# Altium footprint library 上板20130801.PcbLib: 22 footprints (part 1 of 2)
Each footprint in its own frame and in the unit in brackets; x right, y up, seen from the top. Pads: shape width x height; smd on the part's side, far side on the other; paste and mask are expansions set on the pad; w line width, h text height; cw(c..) or ccw(c..) is an arc to the next point about the centre after c.
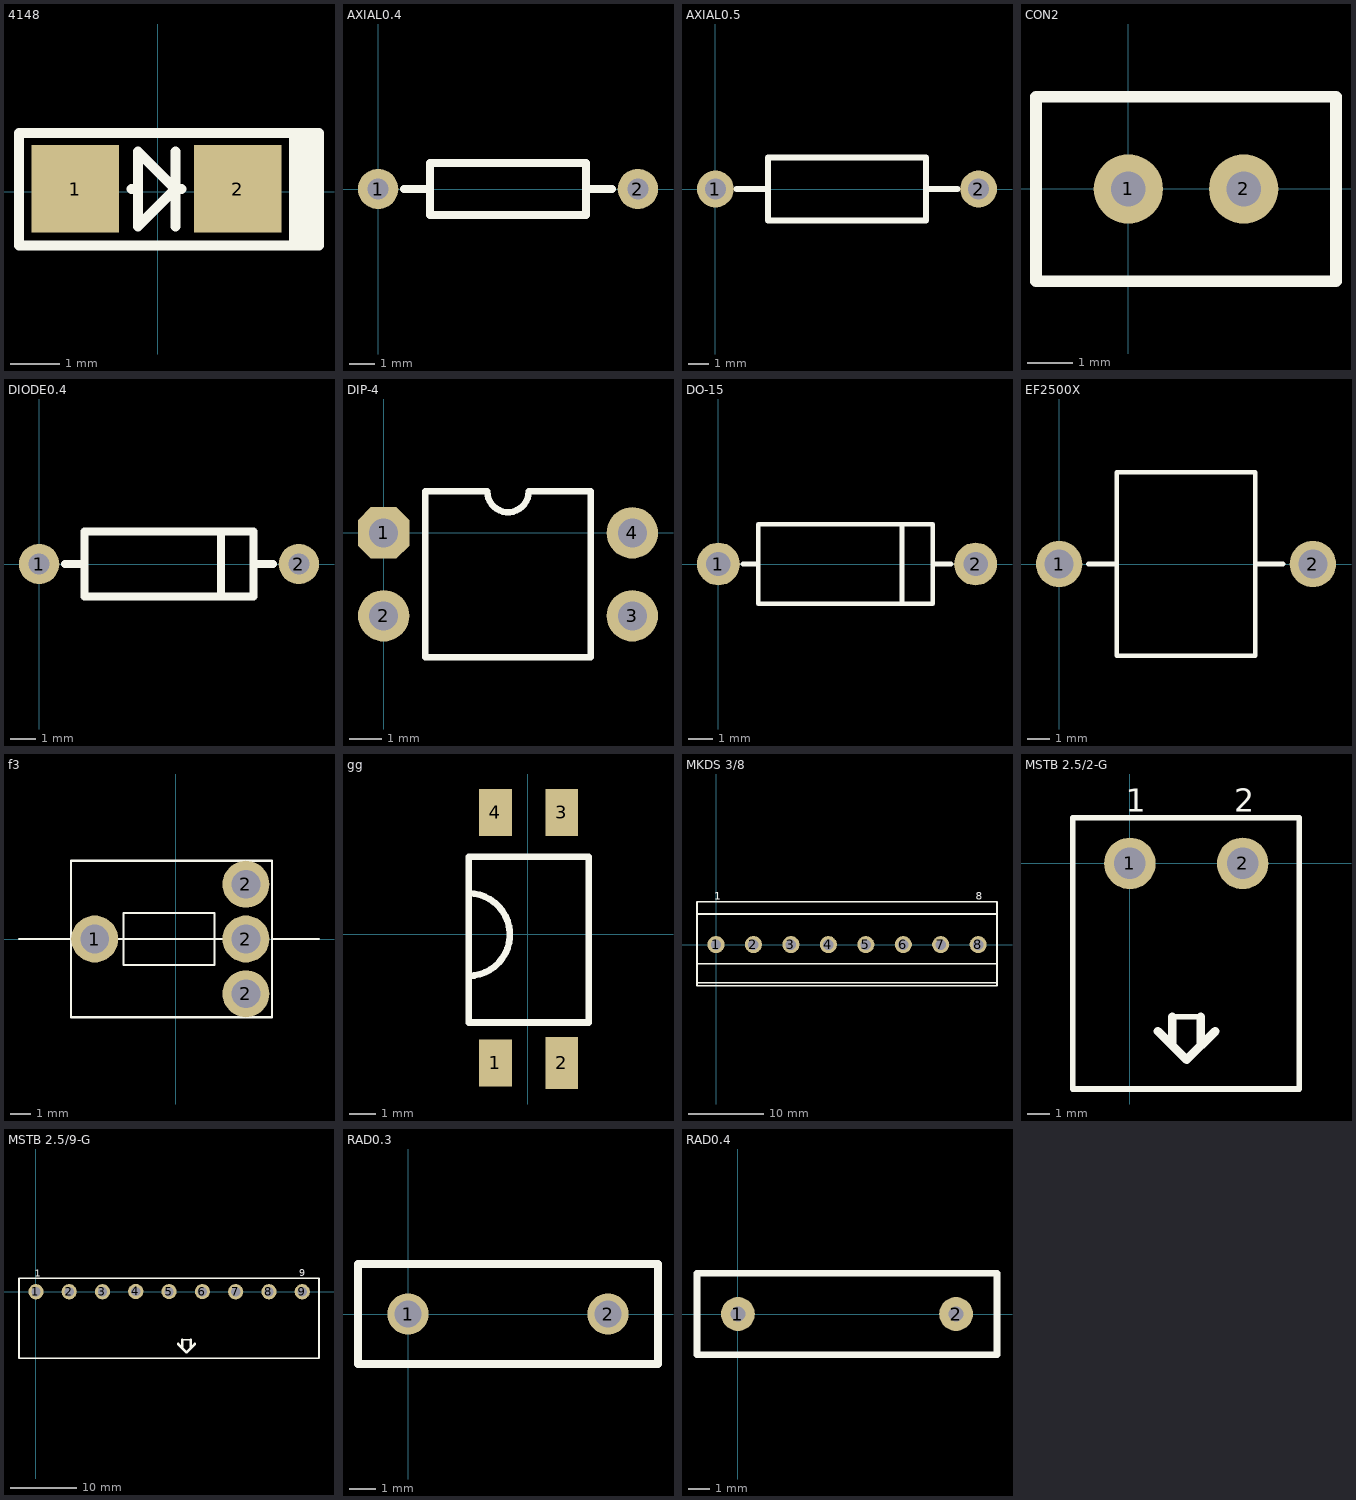
[diagram p0: the footprints below, top view; thin cyan lines are the x and y axes]

## 4148 [mil]
pads (2):
  rect 70x70 smd: 1(-65.81,2.26) 2(64.19,2.26)
Top Overlay:
  lines w8: -20.81,2.26 -19.56,2.26 -17.06,2.26 -15.81,2.26 ; 14.19,-27.74 14.19,32.26 ; 19.19,2.26 14.19,2.26 ; 114.19,-41.74 114.19,46.26 ; 124.19,-42.74 124.19,46.26 ; 14.19,2.26 -15.81,-27.74 -15.81,32.26 14.19,2.26 ; 109.19,-42.74 119.19,-42.74 ; 109.19,-42.74 109.19,47.26 ; 109.19,-42.74 -110.81,-42.74 -110.81,47.26 109.19,47.26 ; 109.19,47.26 119.19,47.26 ; 119.19,-42.74 129.19,-42.74 129.19,47.26 119.19,47.26 ; 119.19,-42.74 119.19,47.26

## AXIAL0.4 [mil]
pads (2):
  round 62 hole 32: 1(0,0) 2(400,0)
Top Overlay:
  lines w12: 40,0 80,0 ; 320,0 360,0 ; 80,-40 80,40 320,40 320,-40 80,-40

## AXIAL0.5 [mil]
pads (2):
  round 70 hole 40: 1(0,0) 2(500,0)
Top Overlay:
  lines w12: 40,0 100,0 ; 400,0 460,0 ; 100,-60 400,-60 400,60 100,60 100,-60

## CON2 [mil]
pads (2):
  round 60 hole 30: 1(0,0) 2(100,0)
Top Overlay:
  lines w10: -80,-80 -80,80 180,80 180,-80 -80,-80

## DIODE0.4 [mil]
pads (2):
  round 62 hole 32: 1(0,0) 2(400,0)
Top Overlay:
  lines w12: 40,0 70,0 ; 280,-50 280,50 ; 330,0 360,0 ; 70,-50 70,50 330,50 330,-50 70,-50

## DIP-4 [mil]
pads (4):
  oct 62x62 hole 35: 1(0,0)
  round 62 hole 35: 2(0,-100) 3(300,-100) 4(300,0)
Top Overlay:
  lines w7.87: 50,-150 50,50 125,50 ccw(c150,50) 175,50 250,50 250,-150 50,-150

## DO-15 [mil]
pads (2):
  round 70 hole 40: 1(0,0) 2(420,0)
Top Overlay:
  lines w8: 40,0 65,0 ; 300,-65 300,65 ; 350,0 380,0 ; 65,-65 65,65 350,65 350,-65 65,-65

## EF2500X [mil]
pads (2):
  round 80 hole 50: 1(0,0) 2(437,0)
Top Overlay:
  lines w8: 50,0 99,0 ; 338,0 386,0 ; 99,-158 338,-158 338,158 99,158 99,-158

## f3 [mil]
pads (4):
  round 90 hole 55: 1(-155,0) 2(135,-105) 2(135,0) 2(135,105)
Top Overlay:
  lines w3.94: -300,0 -200,0 -100,0 ; 90,0 -100,0 ; 185,0 275,0 ; -100,0 -100,50 75,50 75,-50 -100,-50 -100,0 ; -200,-150 185,-150 185,150 -200,150 -200,-150

## gg [mm]
pads (4):
  rect 1.25x1.8 smd: 1(-1.245,-4.928) 3(1.295,4.672) 4(-1.245,4.672)
  rect 1.25x2 smd: 2(1.295,-4.928)
Top Overlay:
  lines w0.254: -2.275,-1.59 ccw(c-2.275,-0.009) -2.275,1.572 ; -2.275,-3.378 -2.275,2.972 2.325,2.972 2.325,-3.378 -2.275,-3.378

## MKDS 3/8 [mil]
pads (8):
  round 90 hole 55: 1(0,0) 2(197,0) 3(394,0) 4(591,0) 5(788,0) 6(985,0) 7(1182,0) 8(1379,0)
Top Overlay:
  lines w8: -100,-200 1478,-200 ; -100,-101 1478,-101 ; -100,161 1478,161 ; -100,-217 -100,0 -100,225 1478,225 1478,-217 -100,-217
  text "8" at 1366,236 h40
  text "1" at -10,235 h40

## MSTB 2.5/2-G [mil]
pads (2):
  round 90 hole 55: 1(0,0) 2(197,0)
Top Overlay:
  lines w10: 74,-268 124,-268 ; -100,-394 296,-394 296,80 -100,80 -100,-394
  lines w15: 49,-293 99,-343 149,-293 ; 74,-318 74,-268 ; 124,-318 124,-268
  text "2" at 182,90 h40
  text "1" at -7,90 h40

## MSTB 2.5/9-G [mil]
pads (9):
  round 90 hole 55: 1(0,0) 2(197,0) 3(394,0) 4(591,2) 5(788,1) 6(985,1) 7(1182,0) 8(1379,0) 9(1576,0)
Top Overlay:
  lines w10: 866,-284 916,-284 ; -100,-394 -100,80 1675,79 1675,-394 -100,-394
  lines w15: 841,-309 891,-359 941,-309 ; 866,-334 866,-284 ; 916,-334 916,-284
  text "1" at -7,90 h40
  text "9" at 1559,91 h40

## PCBComponent_1 [mil]

## RAD0.3 [mil]
pads (2):
  round 62 hole 40: 1(0,0) 2(300,0)
Top Overlay:
  lines w12: -75,-75 -75,75 375,75 375,-75 -75,-75

## RAD0.4 [mil]
pads (2):
  round 62 hole 28: 1(0,0) 2(400,0)
Top Overlay:
  lines w12: -75,-75 475,-75 475,75 -75,75 -75,-75